# Altium footprint library PcbLib1.PcbLib: 12 footprints
Each footprint in its own frame and in the unit in brackets; x right, y up, seen from the top. Pads: shape width x height; smd on the part's side, far side on the other; paste and mask are expansions set on the pad; w line width, h text height; cw(c..) or ccw(c..) is an arc to the next point about the centre after c.
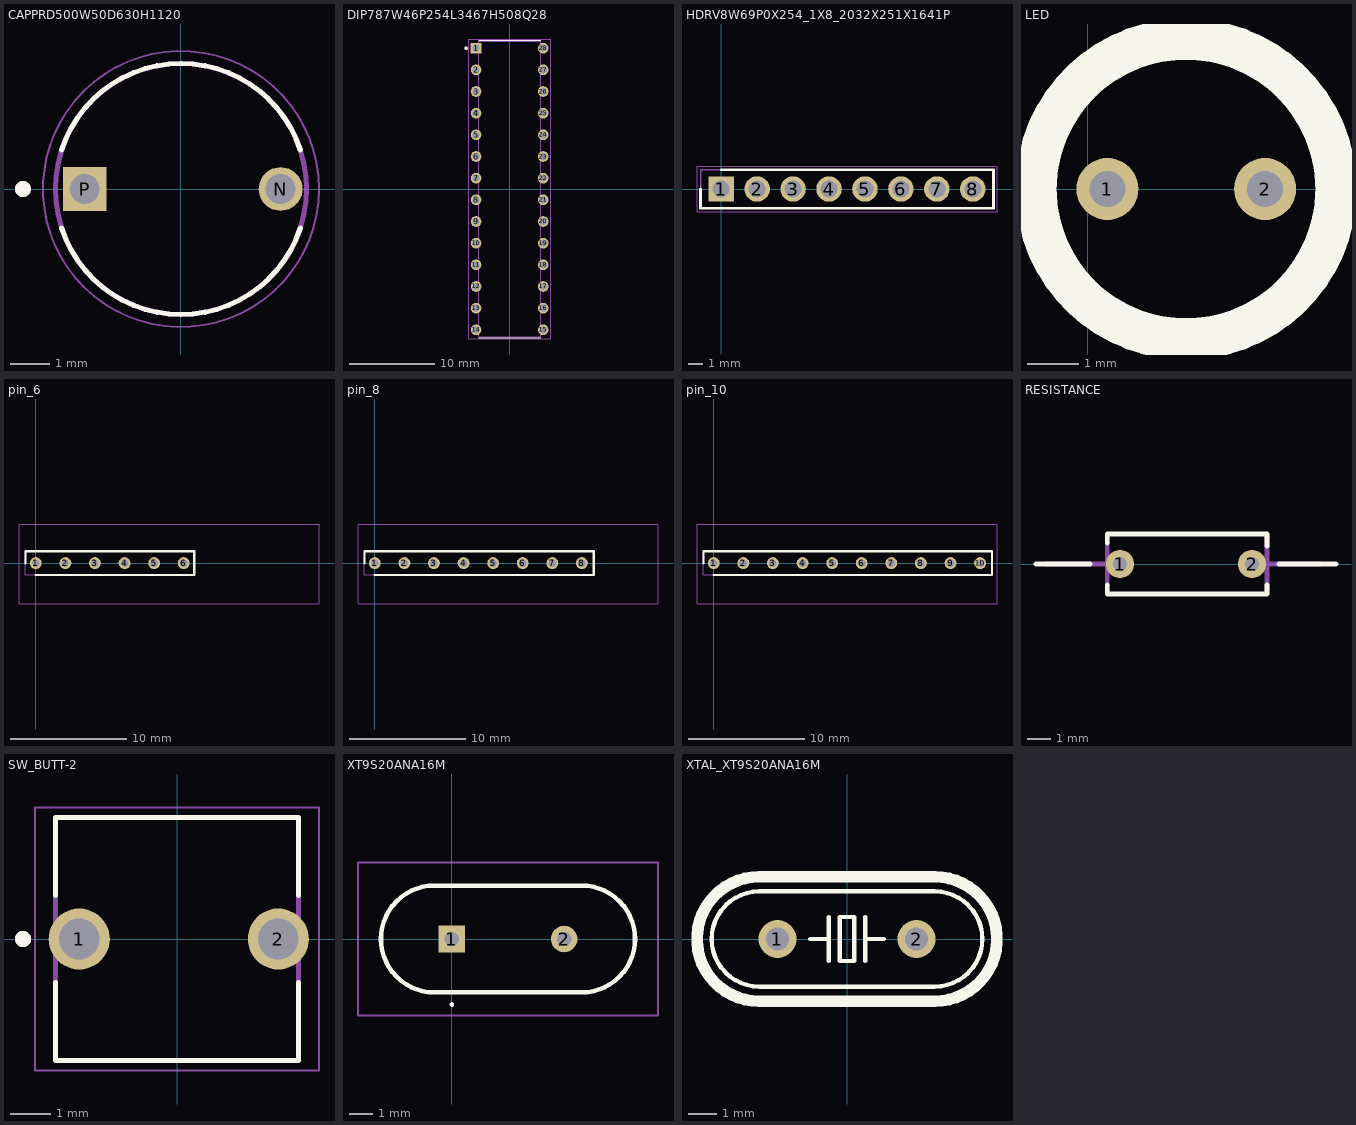
[diagram p0: the footprints below, top view; thin cyan lines are the x and y axes]

## CAPPRD500W50D630H1120 [mm]
pads (2):
  round 1.1 hole 0.75: N(2.5,0)
  rect 1.1x1.1 hole 0.75: P(-2.413,0)
Top Overlay:
  circle w0.2: c-3.963,0 r0.1
  lines w0.127: -2.996,-0.973 ccw(c0,0) 2.996,-0.973 ; -2.996,0.973 cw(c0,0) 2.996,0.973
Mechanical 13:
  circle w0.2: c-3.963,0 r0.1
  circle w0.127: c0,0 r3.15
Mechanical 15:
  circle w0.05: c0,0 r3.463
3D body "step_temp.STEP": height 11.2, standoff -17, extent -3.15,-3.149 3.15,3.149

## DIP787W46P254L3467H508Q28 [mm]
height 5.08
pads (28):
  rect 1.25x1.25 / inner round 1.25 / far side rect 1.25x1.25 hole 0.83: 1(-3.937,16.51)
  round 1.25 hole 0.83: 2(-3.937,13.97) 3(-3.937,11.43) 4(-3.937,8.89) 5(-3.937,6.35) 6(-3.937,3.81) 7(-3.937,1.27) 8(-3.937,-1.27) 9(-3.937,-3.81) 10(-3.937,-6.35) 11(-3.937,-8.89) 12(-3.937,-11.43) 13(-3.937,-13.97) 14(-3.937,-16.51) 15(3.937,-16.51) 16(3.937,-13.97) 17(3.937,-11.43) 18(3.937,-8.89) 19(3.937,-6.35) 20(3.937,-3.81) 21(3.937,-1.27) 22(3.937,1.27) 23(3.937,3.81) 24(3.937,6.35) 25(3.937,8.89) 26(3.937,11.43) 27(3.937,13.97) 28(3.937,16.51)
Top Overlay:
  circle w0.2: c-5.1,16.51 r0.1
  lines w0.127: -3.619,-17.455 3.619,-17.455 ; -3.619,17.455 3.619,17.455
Mechanical 13:
  circle w0.2: c-5.1,16.51 r0.1
  lines w0.127: -3.619,-17.335 -3.619,17.335 3.619,17.335 3.619,-17.335 -3.619,-17.335
Mechanical 15:
  lines w0.05: -4.812,-17.585 -4.812,17.585 4.812,17.585 4.812,-17.585 -4.812,-17.585
3D body "step_temp.STEP": height 4.57, standoff -3.43, extent -4.077,-17.97 3.823,16.7

## HDRV8W69P0X254_1X8_2032X251X1641P [mm]
pads (8):
  rect 1.8x1.8 / inner round 1.8 / far side rect 1.8x1.8 hole 1.2: 1(0,0)
  round 1.8 hole 1.2: 2(2.54,0) 3(5.08,0) 4(7.62,0) 5(10.16,0) 6(12.7,0) 7(15.24,0) 8(17.78,0)
Top Overlay:
  lines w0.2: -1.46,0 -1.46,-1.355 19.24,-1.355 19.24,1.355 0,1.355
Mechanical 15:
  lines w0.1: -1.46,-1.355 -1.46,1.355 19.24,1.355 19.24,-1.355 -1.46,-1.355
Mechanical 20:
  lines w0.05: -1.71,-1.605 -1.71,1.605 19.49,1.605 19.49,-1.605 -1.71,-1.605

## LED [mm]
pads (2):
  round 1.2 hole 0.7: 1(0.381,0) 2(3.429,0)
Top Overlay:
  circle w0.8: c1.9,0 r2.9

## PCBComponent_1 - duplicate [mil]

## pin_6 [mm]
pads (6):
  round 1.02 / inner round 1.575 / far side round 1.02 hole 0.65: 1(0,0) 2(2.54,0) 3(5.08,0)
  round 1.02 hole 0.65: 4(7.62,0) 5(10.16,0) 6(12.7,0)
Top Overlay:
  lines w0.2: -0.889,0 -0.889,1.016 13.589,1.016 13.589,-1.016 0,-1.016
Mechanical 15:
  lines w0.1: -0.889,-1.016 -0.889,1.016 13.589,1.016 13.589,-1.016 -0.889,-1.016
Mechanical 20:
  lines w0.05: -1.44,-3.5 -1.44,3.35 24.31,3.35 24.31,-3.5 -1.44,-3.5

## pin_8 [mm]
pads (8):
  round 1.02 / inner round 1.575 / far side round 1.02 hole 0.65: 1(0,0) 2(2.54,0) 3(5.08,0)
  round 1.02 hole 0.65: 4(7.62,0) 5(10.16,0) 6(12.7,0) 7(15.24,0) 8(17.78,0)
Top Overlay:
  lines w0.2: -0.889,0 -0.889,1.016 18.796,1.016 18.796,-1.016 0,-1.016
Mechanical 15:
  lines w0.1: -0.889,-1.016 -0.889,1.016 18.796,1.016 18.796,-1.016 -0.889,-1.016
Mechanical 20:
  lines w0.05: -1.44,-3.5 -1.44,3.35 24.31,3.35 24.31,-3.5 -1.44,-3.5

## pin_10 [mm]
pads (10):
  round 1.02 / inner round 1.575 / far side round 1.02 hole 0.65: 1(0,0) 2(2.54,0) 3(5.08,0)
  round 1.02 hole 0.65: 4(7.62,0) 5(10.16,0) 6(12.7,0) 7(15.24,0) 8(17.78,0) 9(20.32,0) 10(22.86,0)
Top Overlay:
  lines w0.2: -0.889,0 -0.889,1.016 23.876,1.016 23.876,-1.016 0,-1.016
Mechanical 15:
  lines w0.1: -0.889,-1.016 23.876,-1.016 23.876,1.016 -0.889,1.016 -0.889,-1.016
Mechanical 20:
  lines w0.05: -1.44,-3.5 24.31,-3.5 24.31,3.35 -1.44,3.35 -1.44,-3.5

## RESISTANCE [mm]
pads (2):
  round 1.2 hole 0.6: 1(4.318,0) 2(9.906,0)
Top Overlay:
  lines w0.2: 0.762,0 3.048,0 ; 3.775,-0.889 3.775,-1.27 10.541,-1.27 10.541,-0.889 ; 3.775,0.889 3.775,1.27 10.541,1.27 10.541,0.762 ; 11.049,0 13.462,0
Mechanical 1:
  lines w0.2: 1.2,0 3.775,0 ; 3.775,-1.143 3.775,0 ; 3.775,1.27 3.775,0 ; 10.225,0 12.8,0 ; 10.541,-1.081 10.541,1.27

## SW_BUTT-2 [mm]
height 9.5
pads (2):
  round 1.508 hole 1: 1(-2.413,0) 2(2.5,0)
Top Overlay:
  circle w0.2: c-3.8,0 r0.1
  lines w0.127: -3,-1.075 -3,-3 3,-3 3,-1.075 ; -3,1.075 -3,3 3,3 3,1.075
Mechanical 13:
  circle w0.2: c-3.8,0 r0.1
  lines w0.127: -3,-3 -3,3 3,3 3,-3 -3,-3
Mechanical 15:
  lines w0.05: -3.504,-3.25 3.504,-3.25 3.504,3.25 -3.504,3.25 -3.504,-3.25

## XT9S20ANA16M [mm]
pads (2):
  rect 1.155x1.155 hole 0.63: 1(0,0)
  round 1.155 hole 0.63: 2(4.88,0)
Top Overlay:
  lines w0.1: 0,-2.9 cw(c0,-2.85) 0,-2.8 cw(c0,-2.85) 0,-2.9
  lines w0.2: -0.76,-2.325 cw(c-0.76,0) -0.76,2.325 5.64,2.325 cw(c5.64,0) 5.64,-2.325 -0.76,-2.325
Mechanical 15:
  lines w0.1: -0.76,-2.325 cw(c-0.76,0) -0.76,2.325 5.64,2.325 cw(c5.64,0) 5.64,-2.325 -0.76,-2.325
Mechanical 20:
  lines w0.1: -4.085,-3.325 -4.085,3.325 8.965,3.325 8.965,-3.325 -4.085,-3.325

## XTAL_XT9S20ANA16M [mil]
pads (2):
  round 52 hole 32: 1(-95,0) 2(95,0)
Top Overlay:
  lines w6: -50,0 -25,0 ; -25,-30 -25,0 ; -25,30 -25,0 ; 25,-30 25,0 ; 25,30 25,0 ; 50,0 25,0 ; -120,-65 cw(c-120,0) -120,65 120,65 cw(c120,0) 120,-65 -120,-65 ; -10,-30 -10,30 10,30 10,-30 -10,-30
  lines w16: -120,-85 cw(c-120,0) -120,85 120,85 cw(c120,0) 120,-85 -120,-85